# Altium schematic symbol library Schlib1.SchLib: 12 symbols
Pins are listed as number, name and electrical type; pins without a type are passive.

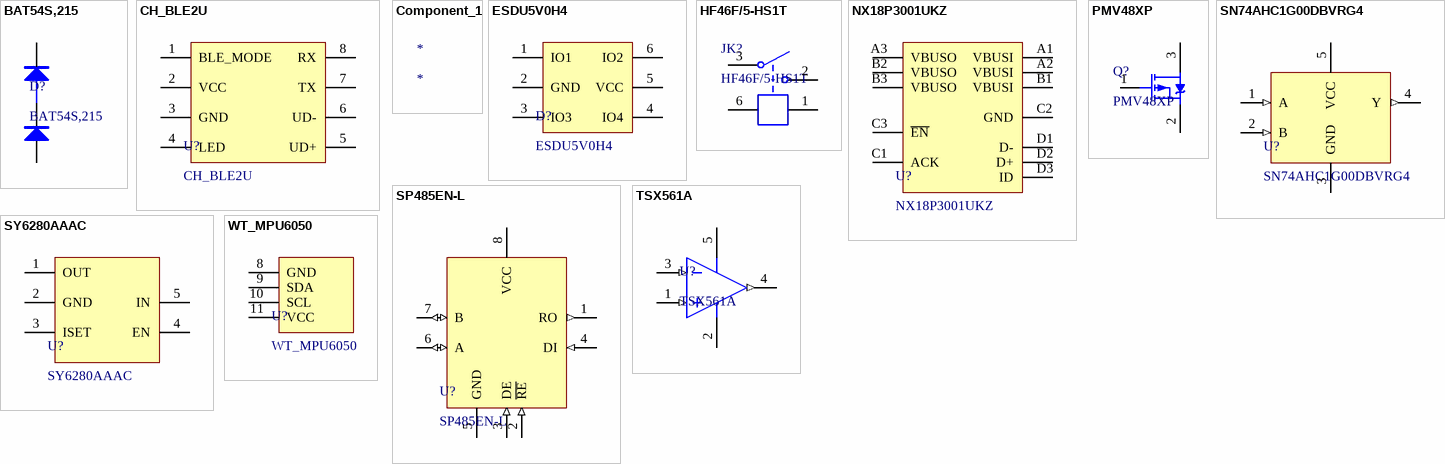
[diagram p0: symbols BAT54S,215 to WT_MPU6050]

## BAT54S,215
designator D?
肖特基二极管
footprint SOT-23-3
pins: 1, 2, 3

## CH_BLE2U
designator U?
BLE模块
footprint CH_BLE2U
pins: 1 BLE_MODE, 2 VCC, 3 GND, 4 LED, 5 UD+, 6 UD-, 7 TX, 8 RX

## Component_1
designator *

## ESDU5V0H4
designator D?
USB ESD保护
footprint SOT23-6 (SOT-23/SC-74A; 5 Leads; Body 3.1 x 3 mm, inc. leads (LxW max))
pins: 1 IO1, 2 GND, 3 IO3, 4 IO4, 5 VCC, 6 IO2

## HF46F/5-HS1T
designator JK?
5V一组常开
pins: 1, 2, 3, 6

## NX18P3001UKZ
designator U?
USB保护开关，ESD器件
footprint WLCSP12
pins: A1 VBUSI, A2 VBUSI, A3 VBUSO, B1 VBUSI, B2 VBUSO, B3 VBUSO, C1 ACK, C2 GND, C3 ~{EN}, D1 D-, D2 D+, D3 ID

## PMV48XP
designator Q?
MOSFET P-CH -20 V -3.5 A
footprint SOT-23-3
pins: 1 G, 2 S, 3 D

## SN74AHC1G00DBVRG4
designator U?
与非门; MF: {'manufacturer': u'Texas Instruments'}; Availability: Unavailable; Price: None; Package: None; Value: *; MP: SN74AHC1G00DBVRG4
footprint SOT-23-5
pins: 1 A (in), 2 B (in), 3 GND (power), 4 Y (out), 5 VCC (power)

## SP485EN-L
designator U?
Enhanced Low Power Half-Duplex RS-485 Transceivers; MF: {'manufacturer': u'MaxLinear, Inc.'}; Availability: Unavailable; Price: None; Package: None; Value: *; MP: SP485EN-L
footprint SOIC8 (SOIC, 8-Leads, Body 4.9x3.9mm, Pitch 1.27mm, IPC Low Density)
pins: 1 RO (out), 2 ~{RE} (in), 3 DE (in), 4 DI (in), 5 GND, 6 A (io), 7 B (io), 8 VCC (power)

## SY6280AAAC
designator U?
USB电子开关，电流保护
footprint SOT-23-5
pins: 1 OUT, 2 GND, 3 ISET, 4 EN, 5 IN

## TSX561A
designator U?
footprint SOT-23-5
pins: 1 IN+ (in), 2 GND (power), 3 IN- (in), 4 OUT (out), 5 VCC (power)

## WT_MPU6050
designator U?
footprint WT_MPU6050
pins: 8 GND, 9 SDA, 10 SCL, 11 VCC